# Altium footprint library SOT-223-3.PcbLib: 1 footprints
Each footprint in its own frame and in the unit in brackets; x right, y up, seen from the top. Pads: shape width x height; smd on the part's side, far side on the other; paste and mask are expansions set on the pad; w line width, h text height; cw(c..) or ccw(c..) is an arc to the next point about the centre after c.
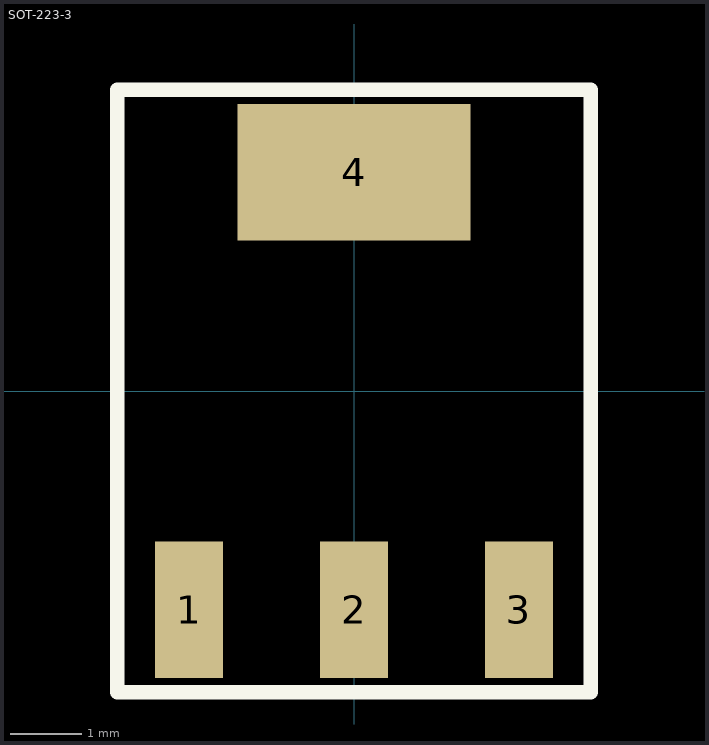
[diagram p0: the footprint, top view; thin cyan lines are the x and y axes]

## SOT-223-3 [mm]
height 1.1
pads (4):
  rect 0.95x1.9 smd: 1(-2.3,-3.05) 2(0,-3.05) 3(2.3,-3.05)
  rect 3.25x1.9 smd: 4(0,3.05)
Top Overlay:
  lines w0.2: -3.3,-4.2 3.3,-4.2 3.3,4.2 -3.3,4.2 -3.3,-4.2
Top Assembly:
  lines w0.1: -3.3,-4.2 3.3,-4.2 3.3,4.2 -3.3,4.2 -3.3,-4.2
  text "'.Designator'" at 0,0 h0.7
3D body "User Library-SOT223-3.STEP": height 1.7, standoff 0, extent -3.25,-3.5 3.25,3.5